# EAGLE library part 4067_MODULE (library 4067)
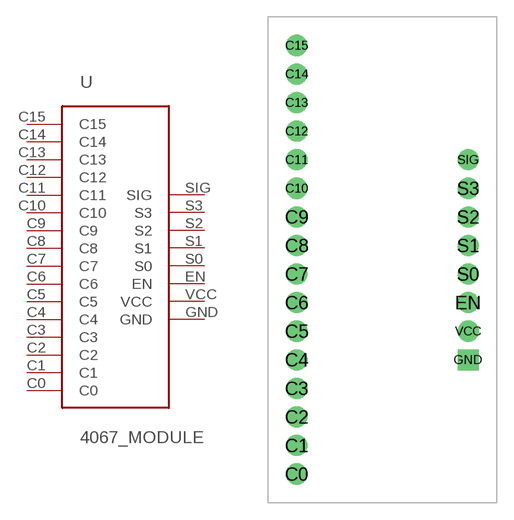
[diagram p0: symbol with the pads of 4067_MODULE; footprint 4067_MODULE]

Designator prefix -

## 4067_MODULE  [4067_MODULE]
C0  C0
C1  C1
C2  C2
C3  C3
C4  C4
C5  C5
C6  C6
C7  C7
C8  C8
C9  C9
C10  C10
C11  C11
C12  C12
C13  C13
C14  C14
C15  C15
EN  EN
GND  GND
S0  S0
S1  S1
S2  S2
S3  S3
SIG  SIG
VCC  VCC  pwr

## Footprint 4067_MODULE (pad centres in mm)
drill 1.016 pad 1.88: C0 -8.89,-19.05; C1 -8.89,-16.51; C2 -8.89,-13.97; C3 -8.89,-11.43; C4 -8.89,-8.89; C5 -8.89,-6.35; C6 -8.89,-3.81; C7 -8.89,-1.27; C8 -8.89,1.27; C9 -8.89,3.81; C10 -8.89,6.35; C11 -8.89,8.89; C12 -8.89,11.43; C13 -8.89,13.97; C14 -8.89,16.51; C15 -8.89,19.05; EN 6.35,-3.81; S0 6.35,-1.27; S1 6.35,1.27; S2 6.35,3.81; S3 6.35,6.35; SIG 6.35,8.89; VCC 6.35,-6.35
drill 1.016 pad 1.88 square: GND 6.35,-8.89